# Altium integrated library 434113043826_Altium_WS-TASV_rev20a.IntLib: 82 symbols (part 1 of 2)
Pins are listed as number, name and electrical type; pins without a type are passive.

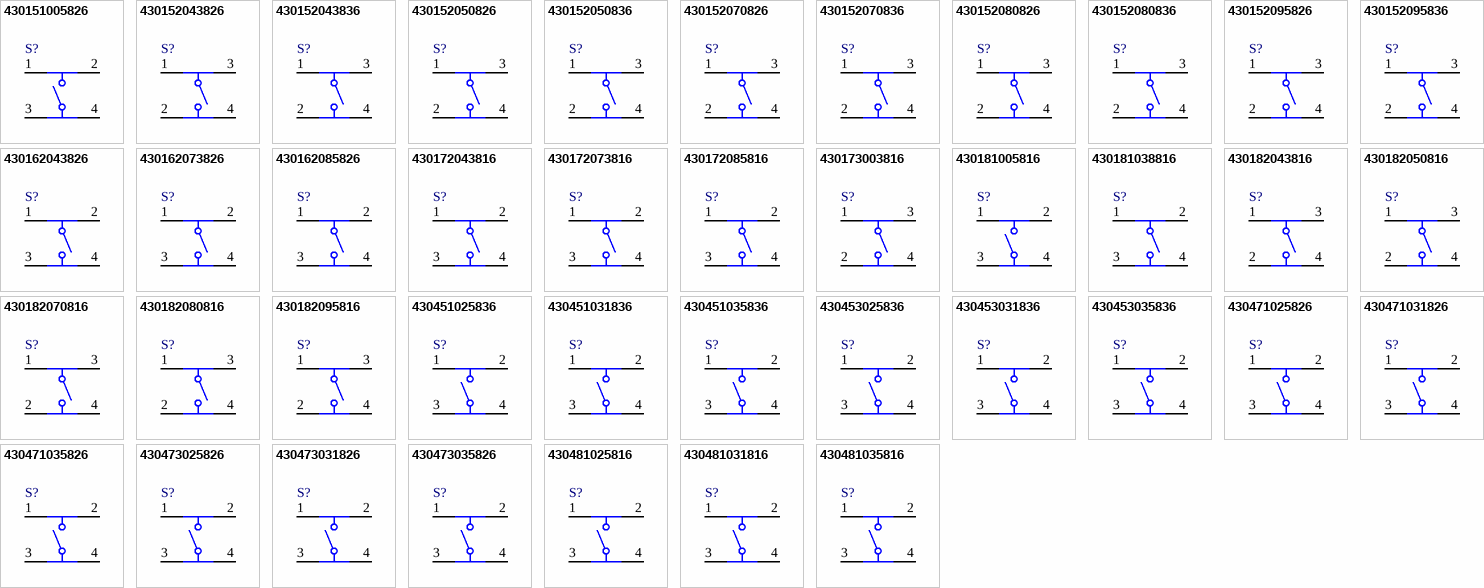
[diagram p0: symbols 430151005826 to 430481035816]

## 430151005826
designator S?
WS-TASV SMT Tact Switch 4.5x4.5mm, height 0.55mm, 260gf; Part Number: 430151005826; Rated Voltage: 12VDC; Rated Current: 50mA; Washable: No; ComponentLink1Description: Manufacturer; ComponentLink1URL: http://www.we-online.de; ComponentLink2Description: Datasheet; ComponentLink2URL: https://katalog.we-online.com/em/datasheet/430151005826.pdf; Operating Temperature: -40 to +85degC; Published Date: November 2019; Contact Material: Stainless Steel; Height: 0.55mm; Mounting Technology: SMT; Contact Plating: Silver; Operation Force: 260gf; Packaging: Tape and Reel; Terminal Material: Copper Alloy; Publisher: Wurth Elektronik; Terminal Plating: Silver
footprint 430151005826
pins: 1, 2, 3, 4

## 430152043826
designator S?
WS-TASV SMT Tact Switch 6x6mm, height 4.3mm, 260gf; Part Number: 430152043826; Rated Voltage: 12VDC; Rated Current: 50mA; Washable: No; ComponentLink1Description: Manufacturer; ComponentLink1URL: http://www.we-online.de; ComponentLink2Description: Datasheet; ComponentLink2URL: https://katalog.we-online.com/em/datasheet/430152043826.pdf; Operating Temperature: -40 to +85degC; Published Date: September 2019; Contact Material: Stainless Steel; Height: 4.3mm; Mounting Technology: SMT; Contact Plating: Silver; Operation Force: 260gf; Packaging: Tape and Reel; Terminal Material: Copper Alloy; Publisher: Wurth Elektronik; Terminal Plating: Silver
footprint 430152043826 (SMD Tact Switch, body 6x6mm)
pins: 1, 2, 3, 4

## 430152043836
designator S?
WS-TASV SMT Tact Switch 6x6mm, height 4.3mm, 360gf; Part Number: 430152043836; Rated Voltage: 12VDC; Rated Current: 50mA; Washable: No; ComponentLink1Description: Manufacturer; ComponentLink1URL: http://www.we-online.de; ComponentLink2Description: Datasheet; ComponentLink2URL: https://katalog.we-online.com/em/datasheet/430152043836.pdf; Operating Temperature: -40 to +85degC; Published Date: September 2019; Contact Material: Stainless Steel; Height: 4.3mm; Mounting Technology: SMT; Contact Plating: Silver; Operation Force: 360gf; Packaging: Tape and Reel; Terminal Material: Copper Alloy; Publisher: Wurth Elektronik; Terminal Plating: Silver
footprint 430152043836 (SMD Tact Switch, body 6x6mm)
pins: 1, 2, 3, 4

## 430152050826
designator S?
WS-TASV SMT Tact Switch 6x6mm, height 5mm, 260gf; Part Number: 430152050826; Rated Voltage: 12VDC; Rated Current: 50mA; Washable: No; ComponentLink1Description: Manufacturer; ComponentLink1URL: http://www.we-online.de; ComponentLink2Description: Datasheet; ComponentLink2URL: https://katalog.we-online.com/em/datasheet/430152050826.pdf; Operating Temperature: -40 to +85degC; Published Date: September 2019; Contact Material: Stainless Steel; Height: 5mm; Mounting Technology: SMT; Contact Plating: Silver; Operation Force: 260gf; Packaging: Tape and Reel; Terminal Material: Copper Alloy; Publisher: Wurth Elektronik; Terminal Plating: Silver
footprint 430152050826 (SMD Tact Switch, body 6x6mm)
pins: 1, 2, 3, 4

## 430152050836
designator S?
WS-TASV SMT Tact Switch 6x6mm, height 5mm, 360gf; Part Number: 430152050836; Rated Voltage: 12VDC; Rated Current: 50mA; Washable: No; ComponentLink1Description: Manufacturer; ComponentLink1URL: http://www.we-online.de; ComponentLink2Description: Datasheet; ComponentLink2URL: https://katalog.we-online.com/em/datasheet/430152050836.pdf; Operating Temperature: -40 to +85degC; Published Date: September 2019; Contact Material: Stainless Steel; Height: 5mm; Mounting Technology: SMT; Contact Plating: Silver; Operation Force: 360gf; Packaging: Tape and Reel; Terminal Material: Copper Alloy; Publisher: Wurth Elektronik; Terminal Plating: Silver
footprint 430152050836 (SMD Tact Switch, body 6x6mm)
pins: 1, 2, 3, 4

## 430152070826
designator S?
WS-TASV SMT Tact Switch 6x6mm, height 7mm, 260gf; Part Number: 430152070826; Rated Voltage: 12VDC; Rated Current: 50mA; Washable: No; ComponentLink1Description: Manufacturer; ComponentLink1URL: http://www.we-online.de; ComponentLink2Description: Datasheet; ComponentLink2URL: https://katalog.we-online.com/em/datasheet/430152070826.pdf; Operating Temperature: -40 to +85degC; Published Date: September 2019; Contact Material: Stainless Steel; Height: 7mm; Mounting Technology: SMT; Contact Plating: Silver; Operation Force: 260gf; Packaging: Tape and Reel; Terminal Material: Copper Alloy; Publisher: Wurth Elektronik; Terminal Plating: Silver
footprint 430152070826 (SMD Tact Switch, body 6x6mm)
pins: 1, 2, 3, 4

## 430152070836
designator S?
WS-TASV SMT Tact Switch 6x6mm, height 7mm, 360gf; Part Number: 430152070836; Rated Voltage: 12VDC; Rated Current: 50mA; Washable: No; ComponentLink1Description: Manufacturer; ComponentLink1URL: http://www.we-online.de; ComponentLink2Description: Datasheet; ComponentLink2URL: https://katalog.we-online.com/em/datasheet/430152070836.pdf; Operating Temperature: -40 to +85degC; Published Date: September 2019; Contact Material: Stainless Steel; Height: 7mm; Mounting Technology: SMT; Contact Plating: Silver; Operation Force: 360gf; Packaging: Tape and Reel; Terminal Material: Copper Alloy; Publisher: Wurth Elektronik; Terminal Plating: Silver
footprint 430152070836 (SMD Tact Switch, body 6x6mm)
pins: 1, 2, 3, 4

## 430152080826
designator S?
WS-TASV SMT Tact Switch 6x6mm, height 8mm, 260gf; Part Number: 430152080826; Rated Voltage: 12VDC; Rated Current: 50mA; Washable: No; ComponentLink1Description: Manufacturer; ComponentLink1URL: http://www.we-online.de; ComponentLink2Description: Datasheet; ComponentLink2URL: https://katalog.we-online.com/em/datasheet/430152080826.pdf; Operating Temperature: -40 to +85degC; Published Date: September 2019; Contact Material: Stainless Steel; Height: 8mm; Mounting Technology: SMT; Contact Plating: Silver; Operation Force: 260gf; Packaging: Tape and Reel; Terminal Material: Copper Alloy; Publisher: Wurth Elektronik; Terminal Plating: Silver
footprint 430152080826 (SMD Tact Switch, body 6x6mm)
pins: 1, 2, 3, 4

## 430152080836
designator S?
WS-TASV SMT Tact Switch 6x6mm, height 8mm, 360gf; Part Number: 430152080836; Rated Voltage: 12VDC; Rated Current: 50mA; Washable: No; ComponentLink1Description: Manufacturer; ComponentLink1URL: http://www.we-online.de; ComponentLink2Description: Datasheet; ComponentLink2URL: https://katalog.we-online.com/em/datasheet/430152080836.pdf; Operating Temperature: -40 to +85degC; Published Date: September 2019; Contact Material: Stainless Steel; Height: 8mm; Mounting Technology: SMT; Contact Plating: Silver; Operation Force: 360gf; Packaging: Tape and Reel; Terminal Material: Copper Alloy; Publisher: Wurth Elektronik; Terminal Plating: Silver
footprint 430152080836 (SMD Tact Switch, body 6x6mm)
pins: 1, 2, 3, 4

## 430152095826
designator S?
WS-TASV SMT Tact Switch 6x6mm, height 9.5mm, 260gf; Part Number: 430152095826; Rated Voltage: 12VDC; Rated Current: 50mA; Washable: No; ComponentLink1Description: Manufacturer; ComponentLink1URL: http://www.we-online.de; ComponentLink2Description: Datasheet; ComponentLink2URL: https://katalog.we-online.com/em/datasheet/430152095826.pdf; Operating Temperature: -40 to +85degC; Published Date: September 2019; Contact Material: Stainless Steel; Height: 9.5mm; Mounting Technology: SMT; Contact Plating: Silver; Operation Force: 260gf; Packaging: Tape and Reel; Terminal Material: Copper Alloy; Publisher: Wurth Elektronik; Terminal Plating: Silver
footprint 430152095826 (SMD Tact Switch, body 6x6mm)
pins: 1, 2, 3, 4

## 430152095836
designator S?
WS-TASV SMT Tact Switch 6x6mm, height 9.5mm, 360gf; Part Number: 430152095836; Rated Voltage: 12VDC; Rated Current: 50mA; Washable: No; ComponentLink1Description: Manufacturer; ComponentLink1URL: http://www.we-online.de; ComponentLink2Description: Datasheet; ComponentLink2URL: https://katalog.we-online.com/em/datasheet/430152095836.pdf; Operating Temperature: -40 to +85degC; Published Date: September 2019; Contact Material: Stainless Steel; Height: 9.5mm; Mounting Technology: SMT; Contact Plating: Silver; Operation Force: 360gf; Packaging: Tape and Reel; Terminal Material: Copper Alloy; Publisher: Wurth Elektronik; Terminal Plating: Silver
footprint 430152095836 (SMD Tact Switch, body 6x6mm)
pins: 1, 2, 3, 4

## 430162043826
designator S?
WS-TASV SMT Tact Switch 12x12mm, height 4.3mm, 260gf; Part Number: 430162043826; Rated Voltage: 12VDC; Rated Current: 50mA; Washable: No; ComponentLink1Description: Manufacturer; ComponentLink1URL: http://www.we-online.de; ComponentLink2Description: Datasheet; ComponentLink2URL: https://katalog.we-online.com/em/datasheet/430162043826.pdf; Operating Temperature: -40 to +85degC; Published Date: September 2019; Contact Material: Stainless Steel; Height: 4.3mm; Mounting Technology: SMT; Contact Plating: Silver; Operation Force: 260gf; Packaging: Tape and Reel; Terminal Material: Copper Alloy; Publisher: Wurth Elektronik; Terminal Plating: Silver
footprint 430162043826 (Tact Switch, SMD, body 12x12mm)
pins: 1, 2, 3, 4

## 430162073826
designator S?
WS-TASV SMT Tact Switch 12x12mm, height 7.3mm, 260gf; Part Number: 430162073826; Rated Voltage: 12VDC; Rated Current: 50mA; Washable: No; ComponentLink1Description: Manufacturer; ComponentLink1URL: http://www.we-online.de; ComponentLink2Description: Datasheet; ComponentLink2URL: https://katalog.we-online.com/em/datasheet/430162073826.pdf; Operating Temperature: -40 to +85degC; Published Date: September 2019; Contact Material: Stainless Steel; Height: 7.3mm; Mounting Technology: SMT; Contact Plating: Silver; Operation Force: 260gf; Packaging: Tape and Reel; Terminal Material: Copper Alloy; Publisher: Wurth Elektronik; Terminal Plating: Silver
footprint 430162073826 (Tact Switch, SMD, body 12x12mm)
pins: 1, 2, 3, 4

## 430162085826
designator S?
WS-TASV SMT Tact Switch 12x12mm, height 8.5mm, 260gf; Part Number: 430162085826; Rated Voltage: 12VDC; Rated Current: 50mA; Washable: No; ComponentLink1Description: Manufacturer; ComponentLink1URL: http://www.we-online.de; ComponentLink2Description: Datasheet; ComponentLink2URL: https://katalog.we-online.com/em/datasheet/430162085826.pdf; Operating Temperature: -40 to +85degC; Published Date: September 2019; Contact Material: Stainless Steel; Height: 8.5mm; Mounting Technology: SMT; Contact Plating: Silver; Operation Force: 260gf; Packaging: Tape and Reel; Terminal Material: Copper Alloy; Publisher: Wurth Elektronik; Terminal Plating: Silver
footprint 430162085826 (Tact Switch, SMD, body 12x12mm)
pins: 1, 2, 3, 4

## 430172043816
designator S?
WS-TASV SMT Tact Switch 12x12mm, height 4.3mm, 160gf; Part Number: 430172043816; Rated Voltage: 12VDC; Rated Current: 50mA; Washable: No; ComponentLink1Description: Manufacturer; ComponentLink1URL: http://www.we-online.de; ComponentLink2Description: Datasheet; ComponentLink2URL: https://katalog.we-online.com/em/datasheet/430172043816.pdf; Operating Temperature: -40 to +85degC; Published Date: September 2019; Contact Material: Stainless Steel; Height: 4.3mm; Mounting Technology: SMT; Contact Plating: Silver; Operation Force: 160gf; Packaging: Tape and Reel; Terminal Material: Copper Alloy; Publisher: Wurth Elektronik; Terminal Plating: Silver
footprint 430172043816 (Tact Switch, SMD, body 12x12mm)
pins: 1, 2, 3, 4

## 430172073816
designator S?
WS-TASV SMT Tact Switch 12x12mm, height 7.3mm, 160gf; Part Number: 430172073816; Rated Voltage: 12VDC; Rated Current: 50mA; Washable: No; ComponentLink1Description: Manufacturer; ComponentLink1URL: http://www.we-online.de; ComponentLink2Description: Datasheet; ComponentLink2URL: https://katalog.we-online.com/em/datasheet/430172073816.pdf; Operating Temperature: -40 to +85degC; Published Date: September 2019; Contact Material: Stainless Steel; Height: 7.3mm; Mounting Technology: SMT; Contact Plating: Silver; Operation Force: 160gf; Packaging: Tape and Reel; Terminal Material: Copper Alloy; Publisher: Wurth Elektronik; Terminal Plating: Silver
footprint 430172073816 (Tact Switch, SMD, body 12x12mm)
pins: 1, 2, 3, 4

## 430172085816
designator S?
WS-TASV SMT Tact Switch 12x12mm, height 8.5mm, 160gf; Part Number: 430172085816; Rated Voltage: 12VDC; Rated Current: 50mA; Washable: No; ComponentLink1Description: Manufacturer; ComponentLink1URL: http://www.we-online.de; ComponentLink2Description: Datasheet; ComponentLink2URL: https://katalog.we-online.com/em/datasheet/430172085816.pdf; Operating Temperature: -40 to +85degC; Published Date: September 2019; Contact Material: Stainless Steel; Height: 8.5mm; Mounting Technology: SMT; Contact Plating: Silver; Operation Force: 160gf; Packaging: Tape and Reel; Terminal Material: Copper Alloy; Publisher: Wurth Elektronik; Terminal Plating: Silver
footprint 430172085816 (Tact Switch, SMD, body 12x12mm)
pins: 1, 2, 3, 4

## 430173003816
designator S?
WS-TASV J-Bend SMT Tact Switch 3.7x3.7mm, height 0.35mm, 160gf; Part Number: 430173003816; Rated Voltage: 12VDC; Rated Current: 50mA; Washable: No; ComponentLink1Description: Manufacturer; ComponentLink1URL: http://www.we-online.de; ComponentLink2Description: Datasheet; ComponentLink2URL: https://katalog.we-online.com/em/datasheet/430173003816.pdf; Operating Temperature: -40 to +85degC; Published Date: September 2019; Contact Material: Stainless Steel; Height: 0.35mm; Mounting Technology: SMT; Contact Plating: Silver; Operation Force: 160gf; Packaging: Tape and Reel; Terminal Material: Copper Alloy; Publisher: Wurth Elektronik; Terminal Plating: Silver
footprint 430173003816 (Tact Switch, SMD, body 3.7x3.7mm)
pins: 1, 2, 3, 4

## 430181005816
designator S?
WS-TASV SMT Tact Switch 4.5x4.5mm, height 0.55mm, 160gf; Part Number: 430181005816; Rated Voltage: 12VDC; Rated Current: 50mA; Washable: No; ComponentLink1Description: Manufacturer; ComponentLink1URL: http://www.we-online.de; ComponentLink2Description: Datasheet; ComponentLink2URL: https://katalog.we-online.com/em/datasheet/430181005816.pdf; Operating Temperature: -40 to +85degC; Published Date: November 2019; Contact Material: Stainless Steel; Height: 0.55mm; Mounting Technology: SMT; Contact Plating: Silver; Operation Force: 160gf; Packaging: Tape and Reel; Terminal Material: Copper Alloy; Publisher: Wurth Elektronik; Terminal Plating: Silver
footprint 430181005816
pins: 1, 2, 3, 4

## 430181038816
designator S?
WS-TASV SMT Tact Switch 4.5x4.5mm, height 3.8mm, 160gf; Part Number: 430181038816; Rated Voltage: 12VDC; Rated Current: 50mA; Washable: No; ComponentLink1Description: Manufacturer; ComponentLink1URL: http://www.we-online.de; ComponentLink2Description: Datasheet; ComponentLink2URL: https://katalog.we-online.com/em/datasheet/430181038816.pdf; Operating Temperature: -40 to +85degC; Published Date: September 2019; Contact Material: Stainless Steel; Height: 3.8mm; Mounting Technology: SMT; Contact Plating: Silver; Operation Force: 160gf; Packaging: Tape and Reel; Terminal Material: Copper Alloy; Publisher: Wurth Elektronik; Terminal Plating: Silver
footprint 430181038816 (Tact Switch, SMD, body 4.5x4.5mm)
pins: 1, 2, 3, 4

## 430182043816
designator S?
WS-TASV SMT Tact Switch 6x6mm, height 4.3mm, 160gf; Part Number: 430182043816; Rated Voltage: 12VDC; Rated Current: 50mA; Washable: No; ComponentLink1Description: Manufacturer; ComponentLink1URL: http://www.we-online.de; ComponentLink2Description: Datasheet; ComponentLink2URL: https://katalog.we-online.com/em/datasheet/430182043816.pdf; Operating Temperature: -40 to +85degC; Published Date: September 2019; Contact Material: Stainless Steel; Height: 4.3mm; Mounting Technology: SMT; Contact Plating: Silver; Operation Force: 160gf; Packaging: Tape and Reel; Terminal Material: Copper Alloy; Publisher: Wurth Elektronik; Terminal Plating: Silver
footprint 430182043816 (SMD Tact Switch, body 6x6mm)
pins: 1, 2, 3, 4

## 430182050816
designator S?
WS-TASV SMT Tact Switch 6x6mm, height 5mm, 160gf; Part Number: 430182050816; Rated Voltage: 12VDC; Rated Current: 50mA; Washable: No; ComponentLink1Description: Manufacturer; ComponentLink1URL: http://www.we-online.de; ComponentLink2Description: Datasheet; ComponentLink2URL: https://katalog.we-online.com/em/datasheet/430182050816.pdf; Operating Temperature: -40 to +85degC; Published Date: September 2019; Contact Material: Stainless Steel; Height: 5mm; Mounting Technology: SMT; Contact Plating: Silver; Operation Force: 160gf; Packaging: Tape and Reel; Terminal Material: Copper Alloy; Publisher: Wurth Elektronik; Terminal Plating: Silver
footprint 430182050816 (SMD Tact Switch, body 6x6mm)
pins: 1, 2, 3, 4

## 430182070816
designator S?
WS-TASV SMT Tact Switch 6x6mm, height 7mm, 160gf; Part Number: 430182070816; Rated Voltage: 12VDC; Rated Current: 50mA; Washable: No; ComponentLink1Description: Manufacturer; ComponentLink1URL: http://www.we-online.de; ComponentLink2Description: Datasheet; ComponentLink2URL: https://katalog.we-online.com/em/datasheet/430182070816.pdf; Operating Temperature: -40 to +85degC; Published Date: September 2019; Contact Material: Stainless Steel; Height: 7mm; Mounting Technology: SMT; Contact Plating: Silver; Operation Force: 160gf; Packaging: Tape and Reel; Terminal Material: Copper Alloy; Publisher: Wurth Elektronik; Terminal Plating: Silver
footprint 430182070816 (SMD Tact Switch, body 6x6mm)
pins: 1, 2, 3, 4

## 430182080816
designator S?
WS-TASV SMT Tact Switch 6x6mm, height 8mm, 160gf; Part Number: 430182080816; Rated Voltage: 12VDC; Rated Current: 50mA; Washable: No; ComponentLink1Description: Manufacturer; ComponentLink1URL: http://www.we-online.de; ComponentLink2Description: Datasheet; ComponentLink2URL: https://katalog.we-online.com/em/datasheet/430182080816.pdf; Operating Temperature: -40 to +85degC; Published Date: September 2019; Contact Material: Stainless Steel; Height: 8mm; Mounting Technology: SMT; Contact Plating: Silver; Operation Force: 160gf; Packaging: Tape and Reel; Terminal Material: Copper Alloy; Publisher: Wurth Elektronik; Terminal Plating: Silver
footprint 430182080816 (SMD Tact Switch, body 6x6mm)
pins: 1, 2, 3, 4

## 430182095816
designator S?
WS-TASV SMT Tact Switch 6x6mm, height 9.5mm, 160gf; Part Number: 430182095816; Rated Voltage: 12VDC; Rated Current: 50mA; Washable: No; ComponentLink1Description: Manufacturer; ComponentLink1URL: http://www.we-online.de; ComponentLink2Description: Datasheet; ComponentLink2URL: https://katalog.we-online.com/em/datasheet/430182095816.pdf; Operating Temperature: -40 to +85degC; Published Date: September 2019; Contact Material: Stainless Steel; Height: 9.5mm; Mounting Technology: SMT; Contact Plating: Silver; Operation Force: 160gf; Packaging: Tape and Reel; Terminal Material: Copper Alloy; Publisher: Wurth Elektronik; Terminal Plating: Silver
footprint 430182095816 (SMD Tact Switch, body 6x6mm)
pins: 1, 2, 3, 4

## 430451025836
designator S?
WS-TASV SMT Washable Tact Switch 6x6mm, height 2.5mm, 360gf; Part Number: 430451025836; Rated Voltage: 12VDC; Rated Current: 50mA; Washable: Yes; ComponentLink1Description: Manufacturer; ComponentLink1URL: http://www.we-online.de; ComponentLink2Description: Datasheet; ComponentLink2URL: https://katalog.we-online.com/em/datasheet/430451025836.pdf; Operating Temperature: -40 to +85degC; Published Date: September 2019; Contact Material: Stainless Steel; Height: 2.5mm; Mounting Technology: SMT; Contact Plating: Silver; Operation Force: 360gf; Packaging: Tape and Reel; Terminal Material: Brass; Publisher: Wurth Elektronik; Terminal Plating: Silver
footprint 430451025836 (SMD Tact Switch, body 6x6mm)
pins: 1, 2, 3, 4

## 430451031836
designator S?
WS-TASV SMT Washable Tact Switch 6x6mm, height 3.1mm, 360gf; Part Number: 430451031836; Rated Voltage: 12VDC; Rated Current: 50mA; Washable: Yes; ComponentLink1Description: Manufacturer; ComponentLink1URL: http://www.we-online.de; ComponentLink2Description: Datasheet; ComponentLink2URL: https://katalog.we-online.com/em/datasheet/430451031836.pdf; Operating Temperature: -40 to +85degC; Published Date: September 2019; Contact Material: Stainless Steel; Height: 3.1mm; Mounting Technology: SMT; Contact Plating: Silver; Operation Force: 360gf; Packaging: Tape and Reel; Terminal Material: Brass; Publisher: Wurth Elektronik; Terminal Plating: Silver
footprint 430451031836 (SMD Tact Switch, body 6x6mm)
pins: 1, 2, 3, 4

## 430451035836
designator S?
WS-TASV SMT Washable Tact Switch 6x6mm, height 3.5mm, 360gf; Part Number: 430451035836; Rated Voltage: 12VDC; Rated Current: 50mA; Washable: Yes; ComponentLink1Description: Manufacturer; ComponentLink1URL: http://www.we-online.de; ComponentLink2Description: Datasheet; ComponentLink2URL: https://katalog.we-online.com/em/datasheet/430451035836.pdf; Operating Temperature: -40 to +85degC; Published Date: September 2019; Contact Material: Stainless Steel; Height: 3.5mm; Mounting Technology: SMT; Contact Plating: Silver; Operation Force: 360gf; Packaging: Tape and Reel; Terminal Material: Brass; Publisher: Wurth Elektronik; Terminal Plating: Silver
footprint 430451035836 (SMD Tact Switch, body 6x6mm)
pins: 1, 2, 3, 4

## 430453025836
designator S?
WS-TASV J-Bend SMT Washable Tact Switch 6x6mm, height 2.5mm, 360gf; Part Number: 430453025836; Rated Voltage: 12VDC; Rated Current: 50mA; Washable: Yes; ComponentLink1Description: Manufacturer; ComponentLink1URL: http://www.we-online.de; ComponentLink2Description: Datasheet; ComponentLink2URL: https://katalog.we-online.com/em/datasheet/430453025836.pdf; Operating Temperature: -40 to +85degC; Published Date: September 2019; Contact Material: Stainless Steel; Height: 2.5mm; Mounting Technology: SMT; Contact Plating: Silver; Operation Force: 360gf; Packaging: Tape and Reel; Terminal Material: Copper Alloy; Publisher: Wurth Elektronik; Terminal Plating: Silver
footprint 430453025836 (SMD Tact Switch, body 6x6mm)
pins: 1, 2, 3, 4

## 430453031836
designator S?
WS-TASV J-Bend SMT Washable Tact Switch 6x6mm, height 3.1mm, 360gf; Part Number: 430453031836; Rated Voltage: 12VDC; Rated Current: 50mA; Washable: Yes; ComponentLink1Description: Manufacturer; ComponentLink1URL: http://www.we-online.de; ComponentLink2Description: Datasheet; ComponentLink2URL: https://katalog.we-online.com/em/datasheet/430453031836.pdf; Operating Temperature: -40 to +85degC; Published Date: September 2019; Contact Material: Stainless Steel; Height: 3.1mm; Mounting Technology: SMT; Contact Plating: Silver; Operation Force: 360gf; Packaging: Tape and Reel; Terminal Material: Copper Alloy; Publisher: Wurth Elektronik; Terminal Plating: Silver
footprint 430453031836 (SMD Tact Switch, body 6x6mm)
pins: 1, 2, 3, 4

## 430453035836
designator S?
WS-TASV J-Bend SMT Washable Tact Switch 6x6mm, height 3.5mm, 360gf; Part Number: 430453035836; Rated Voltage: 12VDC; Rated Current: 50mA; Washable: Yes; ComponentLink1Description: Manufacturer; ComponentLink1URL: http://www.we-online.de; ComponentLink2Description: Datasheet; ComponentLink2URL: https://katalog.we-online.com/em/datasheet/430453035836.pdf; Operating Temperature: -40 to +85degC; Published Date: September 2019; Contact Material: Stainless Steel; Height: 3.5mm; Mounting Technology: SMT; Contact Plating: Silver; Operation Force: 360gf; Packaging: Tape and Reel; Terminal Material: Copper Alloy; Publisher: Wurth Elektronik; Terminal Plating: Silver
footprint 430453035836 (SMD Tact Switch, body 6x6mm)
pins: 1, 2, 3, 4

## 430471025826
designator S?
WS-TASV SMT Washable Tact Switch 6x6mm, height 2.5mm, 260gf; Part Number: 430471025826; Rated Voltage: 12VDC; Rated Current: 50mA; Washable: Yes; ComponentLink1Description: Manufacturer; ComponentLink1URL: http://www.we-online.de; ComponentLink2Description: Datasheet; ComponentLink2URL: https://katalog.we-online.com/em/datasheet/430471025826.pdf; Operating Temperature: -40 to +85degC; Published Date: September 2019; Contact Material: Stainless Steel; Height: 2.5mm; Mounting Technology: SMT; Contact Plating: Silver; Operation Force: 260gf; Packaging: Tape and Reel; Terminal Material: Brass; Publisher: Wurth Elektronik; Terminal Plating: Silver
footprint 430471025826 (SMD Tact Switch, body 6x6mm)
pins: 1, 2, 3, 4

## 430471031826
designator S?
WS-TASV SMT Washable Tact Switch 6x6mm, height 3.1mm, 260gf; Part Number: 430471031826; Rated Voltage: 12VDC; Rated Current: 50mA; Washable: Yes; ComponentLink1Description: Manufacturer; ComponentLink1URL: http://www.we-online.de; ComponentLink2Description: Datasheet; ComponentLink2URL: https://katalog.we-online.com/em/datasheet/430471031826.pdf; Operating Temperature: -40 to +85degC; Published Date: September 2019; Contact Material: Stainless Steel; Height: 3.1mm; Mounting Technology: SMT; Contact Plating: Silver; Operation Force: 260gf; Packaging: Tape and Reel; Terminal Material: Brass; Publisher: Wurth Elektronik; Terminal Plating: Silver
footprint 430471031826 (SMD Tact Switch, body 6x6mm)
pins: 1, 2, 3, 4

## 430471035826
designator S?
WS-TASV SMT Washable Tact Switch 6x6mm, height 3.5mm, 260gf; Part Number: 430471035826; Rated Voltage: 12VDC; Rated Current: 50mA; Washable: Yes; ComponentLink1Description: Manufacturer; ComponentLink1URL: http://www.we-online.de; ComponentLink2Description: Datasheet; ComponentLink2URL: https://katalog.we-online.com/em/datasheet/430471035826.pdf; Operating Temperature: -40 to +85degC; Published Date: September 2019; Contact Material: Stainless Steel; Height: 3.5mm; Mounting Technology: SMT; Contact Plating: Silver; Operation Force: 260gf; Packaging: Tape and Reel; Terminal Material: Brass; Publisher: Wurth Elektronik; Terminal Plating: Silver
footprint 430471035826 (SMD Tact Switch, body 6x6mm)
pins: 1, 2, 3, 4

## 430473025826
designator S?
WS-TASV J-Bend SMT Washable Tact Switch 6x6mm, height 2.5mm, 260gf; Part Number: 430473025826; Rated Voltage: 12VDC; Rated Current: 50mA; Washable: Yes; ComponentLink1Description: Manufacturer; ComponentLink1URL: http://www.we-online.de; ComponentLink2Description: Datasheet; ComponentLink2URL: https://katalog.we-online.com/em/datasheet/430473025826.pdf; Operating Temperature: -40 to +85degC; Published Date: September 2019; Contact Material: Stainless Steel; Height: 2.5mm; Mounting Technology: SMT; Contact Plating: Silver; Operation Force: 260gf; Packaging: Tape and Reel; Terminal Material: Copper Alloy; Publisher: Wurth Elektronik; Terminal Plating: Silver
footprint 430473025826 (SMD Tact Switch, body 6x6mm)
pins: 1, 2, 3, 4

## 430473031826
designator S?
WS-TASV J-Bend SMT Washable Tact Switch 6x6mm, height 3.1mm, 260gf; Part Number: 430473031826; Rated Voltage: 12VDC; Rated Current: 50mA; Washable: Yes; ComponentLink1Description: Manufacturer; ComponentLink1URL: http://www.we-online.de; ComponentLink2Description: Datasheet; ComponentLink2URL: https://katalog.we-online.com/em/datasheet/430473031826.pdf; Operating Temperature: -40 to +85degC; Published Date: September 2019; Contact Material: Stainless Steel; Height: 3.1mm; Mounting Technology: SMT; Contact Plating: Silver; Operation Force: 260gf; Packaging: Tape and Reel; Terminal Material: Copper Alloy; Publisher: Wurth Elektronik; Terminal Plating: Silver
footprint 430473031826 (SMD Tact Switch, body 6x6mm)
pins: 1, 2, 3, 4

## 430473035826
designator S?
WS-TASV J-Bend SMT Washable Tact Switch 6x6mm, height 3.5mm, 260gf; Part Number: 430473035826; Rated Voltage: 12VDC; Rated Current: 50mA; Washable: Yes; ComponentLink1Description: Manufacturer; ComponentLink1URL: http://www.we-online.de; ComponentLink2Description: Datasheet; ComponentLink2URL: https://katalog.we-online.com/em/datasheet/430473035826.pdf; Operating Temperature: -40 to +85degC; Published Date: September 2019; Contact Material: Stainless Steel; Height: 3.5mm; Mounting Technology: SMT; Contact Plating: Silver; Operation Force: 260gf; Packaging: Tape and Reel; Terminal Material: Copper Alloy; Publisher: Wurth Elektronik; Terminal Plating: Silver
footprint 430473035826 (SMD Tact Switch, body 6x6mm)
pins: 1, 2, 3, 4

## 430481025816
designator S?
WS-TASV SMT Washable Tact Switch 6x6mm, height 2.5mm, 160gf; Part Number: 430481025816; Rated Voltage: 12VDC; Rated Current: 50mA; Washable: Yes; ComponentLink1Description: Manufacturer; ComponentLink1URL: http://www.we-online.de; ComponentLink2Description: Datasheet; ComponentLink2URL: https://katalog.we-online.com/em/datasheet/430481025816.pdf; Operating Temperature: -40 to +85degC; Published Date: September 2019; Contact Material: Stainless Steel; Height: 2.5mm; Mounting Technology: SMT; Contact Plating: Silver; Operation Force: 160gf; Packaging: Tape and Reel; Terminal Material: Brass; Publisher: Wurth Elektronik; Terminal Plating: Silver
footprint 430481025816 (SMD Tact Switch, body 6x6mm)
pins: 1, 2, 3, 4

## 430481031816
designator S?
WS-TASV SMT Washable Tact Switch 6x6mm, height 3.1mm, 160gf; Part Number: 430481031816; Rated Voltage: 12VDC; Rated Current: 50mA; Washable: Yes; ComponentLink1Description: Manufacturer; ComponentLink1URL: http://www.we-online.de; ComponentLink2Description: Datasheet; ComponentLink2URL: https://katalog.we-online.com/em/datasheet/430481031816.pdf; Operating Temperature: -40 to +85degC; Published Date: September 2019; Contact Material: Stainless Steel; Height: 3.1mm; Mounting Technology: SMT; Contact Plating: Silver; Operation Force: 160gf; Packaging: Tape and Reel; Terminal Material: Brass; Publisher: Wurth Elektronik; Terminal Plating: Silver
footprint 430481031816 (SMD Tact Switch, body 6x6mm)
pins: 1, 2, 3, 4

## 430481035816
designator S?
WS-TASV SMT Washable Tact Switch 6x6mm, height 3.5mm, 160gf; Part Number: 430481035816; Rated Voltage: 12VDC; Rated Current: 50mA; Washable: Yes; ComponentLink1Description: Manufacturer; ComponentLink1URL: http://www.we-online.de; ComponentLink2Description: Datasheet; ComponentLink2URL: https://katalog.we-online.com/em/datasheet/430481035816.pdf; Operating Temperature: -40 to +85degC; Published Date: September 2019; Contact Material: Stainless Steel; Height: 3.5mm; Mounting Technology: SMT; Contact Plating: Silver; Operation Force: 160gf; Packaging: Tape and Reel; Terminal Material: Brass; Publisher: Wurth Elektronik; Terminal Plating: Silver
footprint 430481035816 (SMD Tact Switch, body 6x6mm)
pins: 1, 2, 3, 4

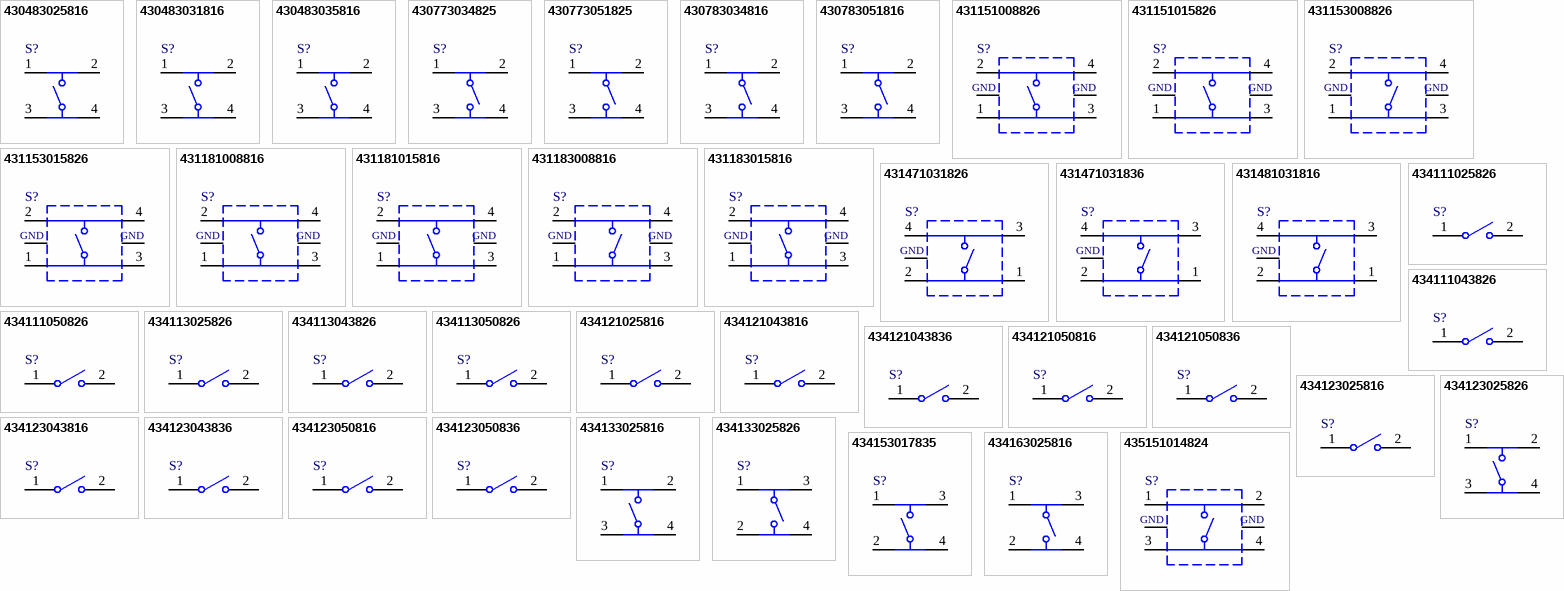
[diagram p1: symbols 430483025816 to 435151014824]

## 430483025816
designator S?
WS-TASV J-Bend SMT Washable Tact Switch 6x6mm, height 2.5mm, 160gf; Part Number: 430483025816; Rated Voltage: 12VDC; Rated Current: 50mA; Washable: Yes; ComponentLink1Description: Manufacturer; ComponentLink1URL: http://www.we-online.de; ComponentLink2Description: Datasheet; ComponentLink2URL: https://katalog.we-online.com/em/datasheet/430483025816.pdf; Operating Temperature: -40 to +85degC; Published Date: September 2019; Contact Material: Stainless Steel; Height: 2.5mm; Mounting Technology: SMT; Contact Plating: Silver; Operation Force: 160gf; Packaging: Tape and Reel; Terminal Material: Copper Alloy; Publisher: Wurth Elektronik; Terminal Plating: Silver
footprint 430483025816 (SMD Tact Switch, body 6x6mm)
pins: 1, 2, 3, 4

## 430483031816
designator S?
WS-TASV J-Bend SMT Washable Tact Switch 6x6mm, height 3.1mm, 160gf; Part Number: 430483031816; Rated Voltage: 12VDC; Rated Current: 50mA; Washable: Yes; ComponentLink1Description: Manufacturer; ComponentLink1URL: http://www.we-online.de; ComponentLink2Description: Datasheet; ComponentLink2URL: https://katalog.we-online.com/em/datasheet/430483031816.pdf; Operating Temperature: -40 to +85degC; Published Date: September 2019; Contact Material: Stainless Steel; Height: 3.1mm; Mounting Technology: SMT; Contact Plating: Silver; Operation Force: 160gf; Packaging: Tape and Reel; Terminal Material: Copper Alloy; Publisher: Wurth Elektronik; Terminal Plating: Silver
footprint 430483031816 (SMD Tact Switch, body 6x6mm)
pins: 1, 2, 3, 4

## 430483035816
designator S?
WS-TASV J-Bend SMT Washable Tact Switch 6x6mm, height 3.5mm, 160gf; Part Number: 430483035816; Rated Voltage: 12VDC; Rated Current: 50mA; Washable: Yes; ComponentLink1Description: Manufacturer; ComponentLink1URL: http://www.we-online.de; ComponentLink2Description: Datasheet; ComponentLink2URL: https://katalog.we-online.com/em/datasheet/430483035816.pdf; Operating Temperature: -40 to +85degC; Published Date: September 2019; Contact Material: Stainless Steel; Height: 3.5mm; Mounting Technology: SMT; Contact Plating: Silver; Operation Force: 160gf; Packaging: Tape and Reel; Terminal Material: Copper Alloy; Publisher: Wurth Elektronik; Terminal Plating: Silver
footprint 430483035816 (SMD Tact Switch, body 6x6mm)
pins: 1, 2, 3, 4

## 430773034825
designator S?
WS-TASV J-Hook SMT Hermetic Tact Switch 6x6mm, height 3.4mm, 250gf; Part Number: 430773034825; Rated Voltage: 12VDC; Rated Current: 50mA; Washable: Yes; ComponentLink1Description: Manufacturer; ComponentLink1URL: http://www.we-online.de; ComponentLink2Description: Datasheet; ComponentLink2URL: https://katalog.we-online.com/em/datasheet/430773034825.pdf; Operating Temperature: -40 to +85degC; Published Date: September 2019; Contact Material: Stainless Steel; Height: 3.4mm; Mounting Technology: SMT; Contact Plating: Silver; Operation Force: 250gf; Packaging: Tape and Reel; Terminal Material: Copper Alloy; Publisher: Wurth Elektronik; Terminal Plating: Silver
footprint 430773034825 (SMD Tact Switch, body 6x6mm)
pins: 1, 2, 3, 4

## 430773051825
designator S?
WS-TASV J-Hook SMT Hermetic Tact Switch 6x6mm, height 5.1mm, 250gf; Part Number: 430773051825; Rated Voltage: 12VDC; Rated Current: 50mA; Washable: Yes; ComponentLink1Description: Manufacturer; ComponentLink1URL: http://www.we-online.de; ComponentLink2Description: Datasheet; ComponentLink2URL: https://katalog.we-online.com/em/datasheet/430773051825.pdf; Operating Temperature: -40 to +85degC; Published Date: September 2019; Contact Material: Stainless Steel; Height: 5.1mm; Mounting Technology: SMT; Contact Plating: Silver; Operation Force: 250gf; Packaging: Tape and Reel; Terminal Material: Copper Alloy; Publisher: Wurth Elektronik; Terminal Plating: Silver
footprint 430773051825 (SMD Tact Switch, body 6x6mm)
pins: 1, 2, 3, 4

## 430783034816
designator S?
WS-TASV J-Hook SMT Hermetic Tact Switch 6x6mm, height 3.4mm, 160gf; Part Number: 430783034816; Rated Voltage: 12VDC; Rated Current: 50mA; Washable: Yes; ComponentLink1Description: Manufacturer; ComponentLink1URL: http://www.we-online.de; ComponentLink2Description: Datasheet; ComponentLink2URL: https://katalog.we-online.com/em/datasheet/430783034816.pdf; Operating Temperature: -40 to +85degC; Published Date: September 2019; Contact Material: Stainless Steel; Height: 3.4mm; Mounting Technology: SMT; Contact Plating: Silver; Operation Force: 160gf; Packaging: Tape and Reel; Terminal Material: Copper Alloy; Publisher: Wurth Elektronik; Terminal Plating: Silver
footprint 430783034816 (SMD Tact Switch, body 6x6mm)
pins: 1, 2, 3, 4

## 430783051816
designator S?
WS-TASV J-Hook SMT Hermetic Tact Switch 6x6mm, height 5.1mm, 160gf; Part Number: 430783051816; Rated Voltage: 12VDC; Rated Current: 50mA; Washable: Yes; ComponentLink1Description: Manufacturer; ComponentLink1URL: http://www.we-online.de; ComponentLink2Description: Datasheet; ComponentLink2URL: https://katalog.we-online.com/em/datasheet/430783051816.pdf; Operating Temperature: -40 to +85degC; Published Date: September 2019; Contact Material: Stainless Steel; Height: 5.1mm; Mounting Technology: SMT; Contact Plating: Silver; Operation Force: 160gf; Packaging: Tape and Reel; Terminal Material: Copper Alloy; Publisher: Wurth Elektronik; Terminal Plating: Silver
footprint 430783051816 (SMD Tact Switch, body 6x6mm)
pins: 1, 2, 3, 4

## 431151008826
designator S?
WS-TASV SMT Tact Switch 5x5mm with ground terminal, height 0.8mm, 260gf; Part Number: 431151008826; Rated Voltage: 15VDC; Rated Current: 20mA; Washable: No; ComponentLink1Description: Manufacturer; ComponentLink1URL: http://www.we-online.de; ComponentLink2Description: Datasheet; ComponentLink2URL: https://katalog.we-online.com/em/datasheet/431151008826.pdf; Operating Temperature: -40 to +85degC; Published Date: March 2020; Contact Material: Stainless Steel; Height: 0.8mm; Mounting Technology: SMT; Contact Plating: Silver; Operation Force: 260gf; Packaging: Tape and Reel; Terminal Material: Copper Alloy; Publisher: Wurth Elektronik; Terminal Plating: Silver
footprint 431151008826 (Tact Switch, SMD, body 5x5mm)
pins: 1, 2, 3, 4, G1 GND, G2 GND

## 431151015826
designator S?
WS-TASV SMT Tact Switch 5x5mm with ground terminal, height 1.5mm, 260gf; Part Number: 431151015826; Rated Voltage: 15VDC; Rated Current: 20mA; Washable: No; ComponentLink1Description: Manufacturer; ComponentLink1URL: http://www.we-online.de; ComponentLink2Description: Datasheet; ComponentLink2URL: https://katalog.we-online.com/em/datasheet/431151015826.pdf; Operating Temperature: -40 to +85degC; Published Date: March 2020; Contact Material: Stainless Steel; Height: 1.5mm; Mounting Technology: SMT; Contact Plating: Silver; Operation Force: 260gf; Packaging: Tape and Reel; Terminal Material: Copper Alloy; Publisher: Wurth Elektronik; Terminal Plating: Silver
footprint 431151015826 (Tact Switch, SMD, body 5x5mm)
pins: 1, 2, 3, 4, G1 GND, G2 GND

## 431153008826
designator S?
WS-TASV J-Bend SMT Tact Switch 5x5mm with ground terminal, height 0.8mm, 260gf; Part Number: 431153008826; Rated Voltage: 15VDC; Rated Current: 20mA; Washable: No; ComponentLink1Description: Manufacturer; ComponentLink1URL: http://www.we-online.de; ComponentLink2Description: Datasheet; ComponentLink2URL: https://katalog.we-online.com/em/datasheet/431153008826.pdf; Operating Temperature: -40 to +85degC; Published Date: March 2020; Contact Material: Stainless Steel; Height: 0.8mm; Mounting Technology: SMT; Contact Plating: Silver; Operation Force: 260gf; Packaging: Tape and Reel; Terminal Material: Copper Alloy; Publisher: Wurth Elektronik; Terminal Plating: Silver
footprint 431153008826 (Tact Switch, SMD, body 5x5mm)
pins: 1, 2, 3, 4, G1 GND, G2 GND

## 431153015826
designator S?
WS-TASV J-Bend SMT Tact Switch 5x5mm with ground terminal, height 1.5mm, 260gf; Part Number: 431153015826; Rated Voltage: 15VDC; Rated Current: 20mA; Washable: No; ComponentLink1Description: Manufacturer; ComponentLink1URL: http://www.we-online.de; ComponentLink2Description: Datasheet; ComponentLink2URL: https://katalog.we-online.com/em/datasheet/431153015826.pdf; Operating Temperature: -40 to +85degC; Published Date: March 2020; Contact Material: Stainless Steel; Height: 1.5mm; Mounting Technology: SMT; Contact Plating: Silver; Operation Force: 260gf; Packaging: Tape and Reel; Terminal Material: Copper Alloy; Publisher: Wurth Elektronik; Terminal Plating: Silver
footprint 431153015826 (Tact Switch, SMD, body 5x5mm)
pins: 1, 2, 3, 4, G1 GND, G2 GND

## 431181008816
designator S?
WS-TASV SMT Tact Switch 5x5mm with ground terminal, height 0.8mm, 160gf; Part Number: 431181008816; Rated Voltage: 15VDC; Rated Current: 20mA; Washable: No; ComponentLink1Description: Manufacturer; ComponentLink1URL: http://www.we-online.de; ComponentLink2Description: Datasheet; ComponentLink2URL: https://katalog.we-online.com/em/datasheet/431181008816.pdf; Operating Temperature: -40 to +85degC; Published Date: March 2020; Contact Material: Stainless Steel; Height: 0.8mm; Mounting Technology: SMT; Contact Plating: Silver; Operation Force: 160gf; Packaging: Tape and Reel; Terminal Material: Copper Alloy; Publisher: Wurth Elektronik; Terminal Plating: Silver
footprint 431181008816 (Tact Switch, SMD, body 5x5mm)
pins: 1, 2, 3, 4, G1 GND, G2 GND

## 431181015816
designator S?
WS-TASV SMT Tact Switch 5x5mm with ground terminal, height 1.5mm, 160gf; Part Number: 431181015816; Rated Voltage: 15VDC; Rated Current: 20mA; Washable: No; ComponentLink1Description: Manufacturer; ComponentLink1URL: http://www.we-online.de; ComponentLink2Description: Datasheet; ComponentLink2URL: https://katalog.we-online.com/em/datasheet/431181015816.pdf; Operating Temperature: -40 to +85degC; Published Date: March 2020; Contact Material: Stainless Steel; Height: 1.5mm; Mounting Technology: SMT; Contact Plating: Silver; Operation Force: 160gf; Packaging: Tape and Reel; Terminal Material: Copper Alloy; Publisher: Wurth Elektronik; Terminal Plating: Silver
footprint 431181015816 (Tact Switch, SMD, body 5x5mm)
pins: 1, 2, 3, 4, G1 GND, G2 GND

## 431183008816
designator S?
WS-TASV J-Bend SMT Tact Switch 5x5mm with ground terminal, height 0.8mm, 160gf; Part Number: 431183008816; Rated Voltage: 15VDC; Rated Current: 20mA; Washable: No; ComponentLink1Description: Manufacturer; ComponentLink1URL: http://www.we-online.de; ComponentLink2Description: Datasheet; ComponentLink2URL: https://katalog.we-online.com/em/datasheet/431183008816.pdf; Operating Temperature: -40 to +85degC; Published Date: March 2020; Contact Material: Stainless Steel; Height: 0.8mm; Mounting Technology: SMT; Contact Plating: Silver; Operation Force: 160gf; Packaging: Tape and Reel; Terminal Material: Copper Alloy; Publisher: Wurth Elektronik; Terminal Plating: Silver
footprint 431183008816 (Tact Switch, SMD, body 5x5mm)
pins: 1, 2, 3, 4, G1 GND, G2 GND

## 431183015816
designator S?
WS-TASV J-Bend SMT Tact Switch 5x5mm with ground terminal, height 1.5mm, 160gf; Part Number: 431183015816; Rated Voltage: 15VDC; Rated Current: 20mA; Washable: No; ComponentLink1Description: Manufacturer; ComponentLink1URL: http://www.we-online.de; ComponentLink2Description: Datasheet; ComponentLink2URL: https://katalog.we-online.com/em/datasheet/431183015816.pdf; Operating Temperature: -40 to +85degC; Published Date: March 2020; Contact Material: Stainless Steel; Height: 1.5mm; Mounting Technology: SMT; Contact Plating: Silver; Operation Force: 160gf; Packaging: Tape and Reel; Terminal Material: Copper Alloy; Publisher: Wurth Elektronik; Terminal Plating: Silver
footprint 431183015816 (Tact Switch, SMD, body 5x5mm)
pins: 1, 2, 3, 4, G1 GND, G2 GND

## 431471031826
designator S?
WS-TASV SMT Tact Switch 6x6mm with ground terminal, height 3.1mm, 260gf; Part Number: 431471031826; Rated Voltage: 12VDC; Rated Current: 50mA; Washable: Yes; ComponentLink1Description: Manufacturer; ComponentLink1URL: http://www.we-online.de; ComponentLink2Description: Datasheet; ComponentLink2URL: https://katalog.we-online.com/em/datasheet/431471031826.pdf; Operating Temperature: -40 to +85degC; Published Date: September 2019; Contact Material: Stainless Steel; Height: 3.1mm; Mounting Technology: SMT; Contact Plating: Silver; Operation Force: 260gf; Packaging: Tape and Reel; Terminal Material: Copper Alloy; Publisher: Wurth Elektronik; Terminal Plating: Silver
footprint 431471031826 (SMD Tact Switch, body 6x6mm)
pins: 1, 2, 3, 4, G1 GND

## 431471031836
designator S?
WS-TASV SMT Tact Switch 6x6mm with ground terminal, height 3.1mm, 360gf; Part Number: 431471031836; Rated Voltage: 12VDC; Rated Current: 50mA; Washable: Yes; ComponentLink1Description: Manufacturer; ComponentLink1URL: http://www.we-online.de; ComponentLink2Description: Datasheet; ComponentLink2URL: https://katalog.we-online.com/em/datasheet/431471031836.pdf; Operating Temperature: -40 to +85degC; Published Date: September 2019; Contact Material: Stainless Steel; Height: 3.1mm; Mounting Technology: SMT; Contact Plating: Silver; Operation Force: 360gf; Packaging: Tape and Reel; Terminal Material: Copper Alloy; Publisher: Wurth Elektronik; Terminal Plating: Silver
footprint 431471031836 (SMD Tact Switch, body 6x6mm)
pins: 1, 2, 3, 4, G1 GND

## 431481031816
designator S?
WS-TASV SMT Tact Switch 6x6mm with ground terminal, height 3.1mm, 160gf; Part Number: 431481031816; Rated Voltage: 12VDC; Rated Current: 50mA; Washable: Yes; ComponentLink1Description: Manufacturer; ComponentLink1URL: http://www.we-online.de; ComponentLink2Description: Datasheet; ComponentLink2URL: https://katalog.we-online.com/em/datasheet/431481031816.pdf; Operating Temperature: -40 to +85degC; Published Date: September 2019; Contact Material: Stainless Steel; Height: 3.1mm; Mounting Technology: SMT; Contact Plating: Silver; Operation Force: 160gf; Packaging: Tape and Reel; Terminal Material: Copper Alloy; Publisher: Wurth Elektronik; Terminal Plating: Silver
footprint 431481031816 (SMD Tact Switch, body 6x6mm)
pins: 1, 2, 3, 4, G1 GND

## 434111025826
designator S?
WS-TASV SMT Tact Switch 6x3.8mm, height 2.5mm, 260gf; Part Number: 434111025826; Rated Voltage: 12VDC; Rated Current: 50mA; Washable: No; ComponentLink1Description: Manufacturer; ComponentLink1URL: http://www.we-online.de; ComponentLink2Description: Datasheet; ComponentLink2URL: https://katalog.we-online.com/em/datasheet/434111025826.pdf; Operating Temperature: -40 to +85degC; Published Date: September 2019; Contact Material: Stainless Steel; Height: 2.5mm; Mounting Technology: SMT; Contact Plating: Silver; Operation Force: 260gf; Packaging: Tape and Reel; Terminal Material: Copper Alloy; Publisher: Wurth Elektronik; Terminal Plating: Silver
footprint 434111025826 (SMD Tact Switch, body 6x3.8mm)
pins: 1, 2

## 434111043826
designator S?
WS-TASV SMT Tact Switch 6x3.5mm, height 4.3mm, 260gf; Part Number: 434111043826; Rated Voltage: 12VDC; Rated Current: 50mA; Washable: No; ComponentLink1Description: Manufacturer; ComponentLink1URL: http://www.we-online.de; ComponentLink2Description: Datasheet; ComponentLink2URL: https://katalog.we-online.com/em/datasheet/434111043826.pdf; Operating Temperature: -40 to +85degC; Published Date: September 2019; Contact Material: Stainless Steel; Height: 4.3mm; Mounting Technology: SMT; Contact Plating: Silver; Operation Force: 260gf; Packaging: Tape and Reel; Terminal Material: Copper Alloy; Publisher: Wurth Elektronik; Terminal Plating: Silver
footprint 434111043826 (SMD Tact Switch, body 6x3.5mm)
pins: 1, 2

## 434111050826
designator S?
WS-TASV SMT Tact Switch 6x3.5mm, height 5mm, 260gf; Part Number: 434111050826; Rated Voltage: 12VDC; Rated Current: 50mA; Washable: No; ComponentLink1Description: Manufacturer; ComponentLink1URL: http://www.we-online.de; ComponentLink2Description: Datasheet; ComponentLink2URL: https://katalog.we-online.com/em/datasheet/434111050826.pdf; Operating Temperature: -40 to +85degC; Published Date: September 2019; Contact Material: Stainless Steel; Height: 5mm; Mounting Technology: SMT; Contact Plating: Silver; Operation Force: 260gf; Packaging: Tape and Reel; Terminal Material: Copper Alloy; Publisher: Wurth Elektronik; Terminal Plating: Silver
footprint 434111050826 (SMD Tact Switch, body 6x3.5mm)
pins: 1, 2

## 434113025826
designator S?
WS-TASV J-Bend SMT Tact Switch 6x3.8mm, height 2.5mm, 260gf; Part Number: 434113025826; Rated Voltage: 12VDC; Rated Current: 50mA; Washable: No; ComponentLink1Description: Manufacturer; ComponentLink1URL: http://www.we-online.de; ComponentLink2Description: Datasheet; ComponentLink2URL: https://katalog.we-online.com/em/datasheet/434113025826.pdf; Operating Temperature: -40 to +85degC; Published Date: September 2019; Contact Material: Stainless Steel; Height: 2.5mm; Mounting Technology: SMT; Contact Plating: Silver; Operation Force: 260gf; Packaging: Tape and Reel; Terminal Material: Copper Alloy; Publisher: Wurth Elektronik; Terminal Plating: Silver
footprint 434113025826 (SMD Tact Switch, body 6x3.8mm)
pins: 1, 2

## 434113043826
designator S?
WS-TASV J-Bend SMT Tact Switch 6x3.5mm, height 4.3mm, 260gf; Part Number: 434113043826; Rated Voltage: 12VDC; Rated Current: 50mA; Washable: No; ComponentLink1Description: Manufacturer; ComponentLink1URL: http://www.we-online.de; ComponentLink2Description: Datasheet; ComponentLink2URL: https://katalog.we-online.com/em/datasheet/434113043826.pdf; Operating Temperature: -40 to +85degC; Published Date: September 2019; Contact Material: Stainless Steel; Height: 4.3mm; Mounting Technology: SMT; Contact Plating: Silver; Operation Force: 260gf; Packaging: Tape and Reel; Terminal Material: Copper Alloy; Publisher: Wurth Elektronik; Terminal Plating: Silver
footprint 434113043826 (SMD Tact Switch, body 6x3.5mm)
pins: 1, 2

## 434113050826
designator S?
WS-TASV J-Bend SMT Tact Switch 6x3.5mm, height 5mm, 260gf; Part Number: 434113050826; Rated Voltage: 12VDC; Rated Current: 50mA; Washable: No; ComponentLink1Description: Manufacturer; ComponentLink1URL: http://www.we-online.de; ComponentLink2Description: Datasheet; ComponentLink2URL: https://katalog.we-online.com/em/datasheet/434113050826.pdf; Operating Temperature: -40 to +85degC; Published Date: September 2019; Contact Material: Stainless Steel; Height: 5mm; Mounting Technology: SMT; Contact Plating: Silver; Operation Force: 260gf; Packaging: Tape and Reel; Terminal Material: Copper Alloy; Publisher: Wurth Elektronik; Terminal Plating: Silver
footprint 434113050826 (SMD Tact Switch, body 6x3.5mm)
pins: 1, 2

## 434121025816
designator S?
WS-TASV SMT Tact Switch 6x3.8mm, height 2.5mm, 160gf; Part Number: 434121025816; Rated Voltage: 12VDC; Rated Current: 50mA; Washable: No; ComponentLink1Description: Manufacturer; ComponentLink1URL: http://www.we-online.de; ComponentLink2Description: Datasheet; ComponentLink2URL: https://katalog.we-online.com/em/datasheet/434121025816.pdf; Operating Temperature: -40 to +85degC; Published Date: September 2019; Contact Material: Stainless Steel; Height: 2.5mm; Mounting Technology: SMT; Contact Plating: Silver; Operation Force: 160gf; Packaging: Tape and Reel; Terminal Material: Copper Alloy; Publisher: Wurth Elektronik; Terminal Plating: Silver
footprint 434121025816 (SMD Tact Switch, body 6x3.8mm)
pins: 1, 2